# EAGLE library part ISP-6_POL_FEMALE (library ISP-6_Pol_Female)
ISP Female Stecker für Programmierung von AVR Mikrocontrollern
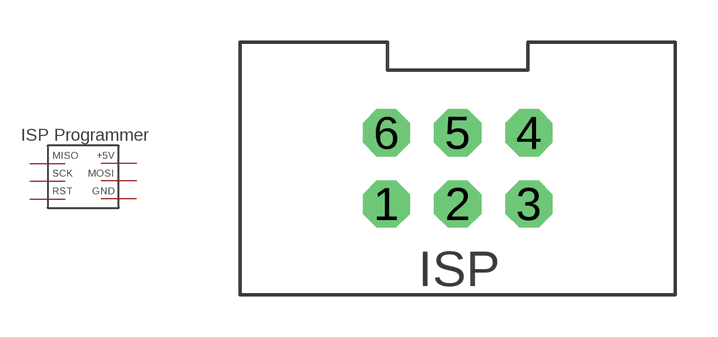
[diagram p0: symbol with the pads of ISP-6_POL_FEMALE; footprint ISP-6_POL_FEMALE]

Designator prefix -

## ISP-6_POL_FEMALE  [ISP-6_POL_FEMALE]
1  GND
2  MOSI
3  VCC
4  MISO
5  SCK
6  RST

## Footprint ISP-6_POL_FEMALE (pad centres in mm)
drill 0.8 pad 1.676 octagon: 1 -2.54,-1.27; 2 0,-1.27; 3 2.54,-1.27; 4 2.54,1.27; 5 0,1.27; 6 -2.54,1.27